# EAGLE library part HX1 (library trackuino)
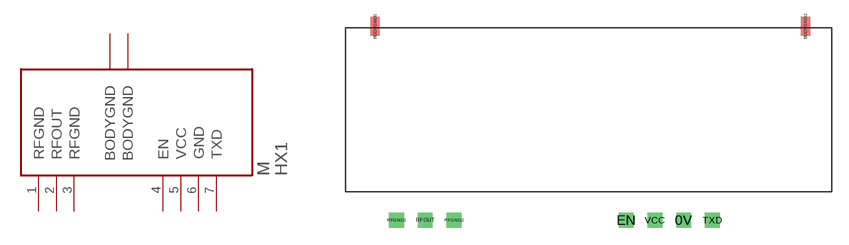
[diagram p0: symbol with the pads of HX1; footprint HX1]

Designator prefix M

## HX1  [HX1]
0V  GND
BODYGND1  BODYGND
BODYGND2  BODYGND
EN  EN
RFGND1  RFGND  pas
RFGND2  RFGND
RFOUT  RFOUT
TXD  TXD
VCC  VCC

## Footprint HX1 (pad centres in mm)
drill 0.8 square: 0V 25.4,-8.89; EN 20.32,-8.89; RFGND1 0,-8.89; RFGND2 5.08,-8.89; RFOUT 2.54,-8.89; TXD 27.94,-8.89; VCC 22.86,-8.89
smd 0.813 x 1.676: BODYGND1 -1.905,8.255; BODYGND2 36.195,8.255